# Altium footprint library MSC Modules.PcbLib: 5 footprints
Each footprint in its own frame and in the unit in brackets; x right, y up, seen from the top. Pads: shape width x height; smd on the part's side, far side on the other; paste and mask are expansions set on the pad; w line width, h text height; cw(c..) or ccw(c..) is an arc to the next point about the centre after c.
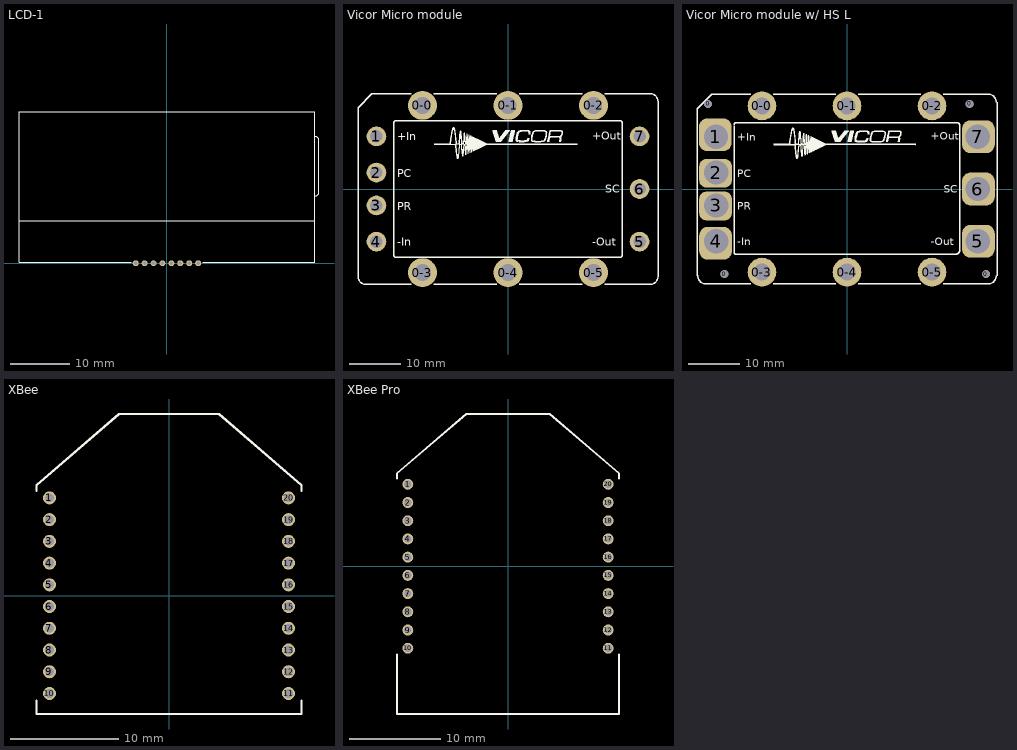
[diagram p0: the footprints below, top view; thin cyan lines are the x and y axes]

## LCD-1 [mm] "COG (Chip-on-Glass) Liquid Crystal Display Module (1/16\" rise above board)"
height 3.688
pads (8):
  round 1 hole 0.6 mask+0.064: 1(5.25,0) 2(3.75,0) 3(2.25,0) 4(0.75,0) 5(-0.75,0) 6(-2.25,0) 7(-3.75,0) 8(-5.25,0)
Top Overlay:
  lines w0.2: -24.85,7.15 24.85,7.15 ; -6,0.15 -24.85,0.15 -24.85,25.45 24.85,25.45 24.85,0.15 6,0.15 ; 24.85,11.3 ccw(c24.85,12) 25.55,12 25.55,20.6 ccw(c24.85,20.6) 24.85,21.3
3D body: height 3.69, standoff -6.06, extent -24.85,-0.15 25.55,25.45

## Vicor Micro module [mil] "Vicor Micro DC-DC converter, Long Pins"
height 500
pads (13):
  round 219 hole 128.5: 0-0(-650,635) 0-1(0,635) 0-2(650,635) 0-3(-650,-635) 0-4(0,-635) 0-5(650,-635)
  round 150 hole 94: 1(-1000,400) 2(-1000,125) 3(-1000,-125) 4(-1000,-400) 5(1000,-400) 6(1000,0) 7(1000,400)
Top Overlay:
  drawing of 28 lines, arcs and shapes, not listed
  text "+In" at -840,370 h60
  text "PC" at -840,90 h60
  text "PR" at -840,-160 h60
  text "-In" at -840,-430 h60
  text "-Out" at 640,-430 h60
  text "SC" at 740,-30 h60
  text "+Out" at 640,375 h60
3D body: height 86.11, standoff -532, extent -1139.96,-724 1139.96,726

## Vicor Micro module w/ HS L [mil] "Vicor Micro DC-DC converter, Long Pins, 0.9\" Heatsink"
height 1417.32
pads (17):
  round 60 hole 60: 0(-1062.5,650) 0(-937.5,-650) 0(937.5,650) 0(1062.5,-650)
  round 219 hole 128.5: 0-0(-650,635) 0-1(0,635) 0-2(650,635) 0-3(-650,-635) 0-4(0,-635) 0-5(650,-635)
  rrect50% 250x250 hole 185 copper offset -5,15: 1(-1001.97,399.61)
  rrect50% 250x220 hole 185 copper offset -5,-5: 2(-1000,125) 3(-1000,-125)
  rrect50% 250x250 hole 185 copper offset -5,-15: 4(-1000,-400)
  rrect50% 250x250 hole 185 copper offset 5,0: 5(1000,-400) 6(1000,0) 7(1000,400)
Top Overlay:
  drawing of 29 lines, arcs and shapes, not listed
  text "+Out" at 640,375 h60
  text "SC" at 740,-30 h60
  text "-Out" at 640,-430 h60
  text "-In" at -840,-430 h60
  text "PR" at -840,-160 h60
  text "PC" at -840,90 h60
  text "+In" at -840,370 h60
3D body: height 1411.99, standoff -117.11, extent -1123.86,-735.67 1156.14,734.33

## XBee [mm] "XBee, 20p DIP, 2mm Pitch, 22mm row spacing"
height 3.75
pads (20):
  round 1.2 hole 0.8 mask+0.064: 1(-11,9) 2(-11,7) 3(-11,5) 4(-11,3) 5(-11,1) 6(-11,-1) 7(-11,-3) 8(-11,-5) 9(-11,-7) 10(-11,-9) 11(11,-9) 12(11,-7) 13(11,-5) 14(11,-3) 15(11,-1) 16(11,1) 17(11,3) 18(11,5) 19(11,7) 20(11,9)
Top Overlay:
  lines w0.2: -12.19,-9.65 -12.19,-10.89 12.19,-10.89 12.19,-9.65 ; -12.19,9.65 -12.19,10.19 -4.6,16.72 4.6,16.72 12.19,10.19 12.19,9.65
3D body: height 3.72, standoff -4.06, extent -12.2,-10.905 12.18,16.705

## XBee Pro [mm] "XBee Pro, 20p DIP, 2mm Pitch, 22mm row spacing"
height 3.75
pads (20):
  round 1.2 hole 0.8 mask+0.064: 1(-11,9) 2(-11,7) 3(-11,5) 4(-11,3) 5(-11,1) 6(-11,-1) 7(-11,-3) 8(-11,-5) 9(-11,-7) 10(-11,-9) 11(11,-9) 12(11,-7) 13(11,-5) 14(11,-3) 15(11,-1) 16(11,1) 17(11,3) 18(11,5) 19(11,7) 20(11,9)
Top Overlay:
  lines w0.2: -12.19,-9.65 -12.19,-16.22 12.19,-16.22 12.19,-9.65 ; -12.19,9.65 -12.19,10.19 -4.6,16.72 4.6,16.72 12.19,10.19 12.19,9.65
3D body: height 3.72, standoff -4.06, extent -12.2,-16.225 12.18,16.715